# Altium schematic symbol library EDH476M063S9MAA.SchLib: 1 symbol
Pins are listed as number, name and electrical type; pins without a type are passive.

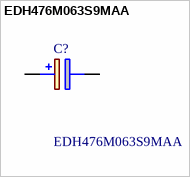
[diagram p0: symbol EDH476M063S9MAA]

## EDH476M063S9MAA
designator C?
Aluminium Electrolytic Capacitors - SMD 63V 47uF 20% AEC-Q200; Manufacturer_Name: KEMET; Geometry.Height: 10.5mm; Mouser Part Number: 80-EDH476M063S9MAA; Mouser Price/Stock: https://www.mouser.co.uk/ProductDetail/KEMET/EDH476M063S9MAA?qs=E9QF1UCAUX7jQ3Np5bFu7Q%3D%3D; Manufacturer_Part_Number: EDH476M063S9MAA; Datasheet Link: https://content.kemet.com/datasheets/KEM_A4049_EDH.pdf
footprint CAPAE830X1050N
pins: 1 +, 2 -